# EAGLE library part SENSOR-TCS3414CS (library Discrete)
Digital Color Light Sensor http://www.taosinc.com/getfile.aspx?type=press&file=tcs3414cs_e45.pdf
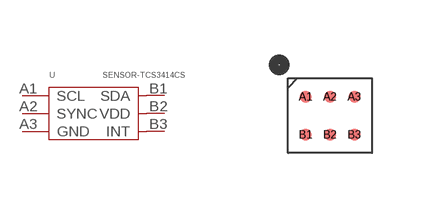
[diagram p7: symbol with the pads of BGA06; footprint BGA06]

Designator prefix U

## SENSOR-TCS3414CS-BGA06  [BGA06]
A1  SCL
A2  SYNC  in
A3  GND  sup
B1  SDA
B2  VDD  pwr
B3  INT  out

## Footprint BGA06 (pad centres in mm)
http://www.taosinc.com/getfile.aspx?type=press&file=tcs3414cs_e45.pdf
smd 0.3 x 0.3: A1 -0.61,0.475; A2 0,0.475; A3 0.61,0.475; B1 -0.61,-0.475; B2 0,-0.475; B3 0.61,-0.475